# Altium schematic symbol library ConnecteurCAN.SchLib: 1 symbol
Pins are listed as number, name and electrical type; pins without a type are passive.

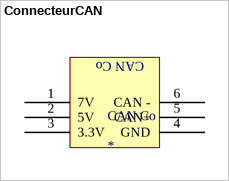
[diagram p0: symbol ConnecteurCAN]

## ConnecteurCAN
designator CAN Co
footprint CAN Connecteur
pins: 1 7V, 2 5V, 3 3.3V, 4 GND, 5 CAN+, 6 CAN -